# EAGLE library part SAMD20JXXA (library ihpcb-sam)
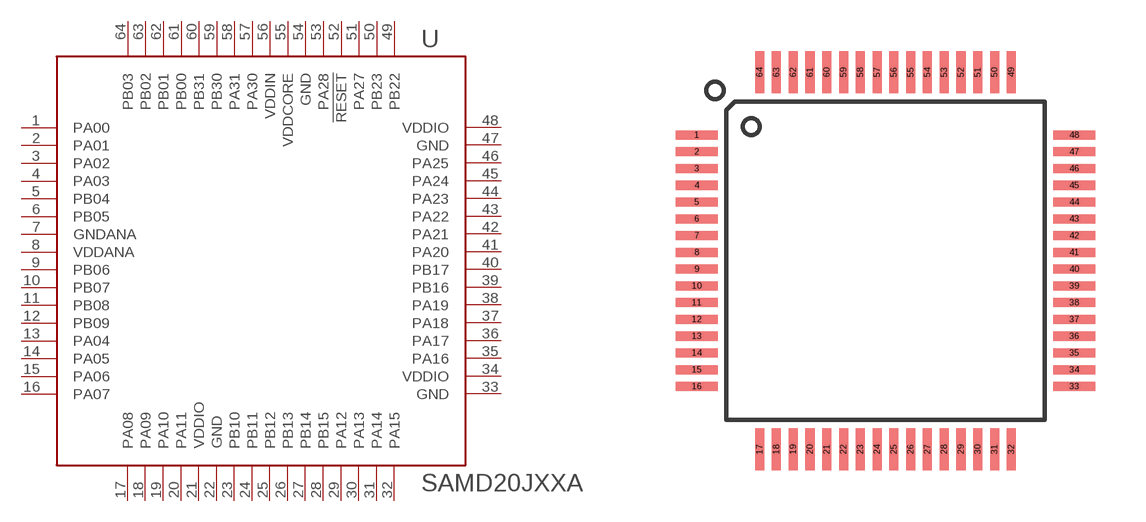
[diagram p0: symbol with the pads of TQFP64; footprint TQFP64]

Designator prefix U

## SAMD20JXXA-AU(T)  [TQFP64]
1  PA00
2  PA01
3  PA02
4  PA03
5  PB04
6  PB05
7  GNDANA
8  VDDANA
9  PB06
10  PB07
11  PB08
12  PB09
13  PA04
14  PA05
15  PA06
16  PA07
17  PA08
18  PA09
19  PA10
20  PA11
21  VDDIO
22  GND
23  PB10
24  PB11
25  PB12
26  PB13
27  PB14
28  PB15
29  PA12
30  PA13
31  PA14
32  PA15
33  GND
34  VDDIO
35  PA16
36  PA17
37  PA18
38  PA19
39  PB16
40  PB17
41  PA20
42  PA21
43  PA22
44  PA23
45  PA24
46  PA25
47  GND
48  VDDIO
49  PB22
50  PB23
51  PA27
52  !RESET
53  PA28
54  GND
55  VDDCORE
56  VDDIN
57  PA30
58  PA31
59  PB30
60  PB31
61  PB00
62  PB01
63  PB02
64  PB03

## Footprint TQFP64 (pad centres in mm)
smd 1.25 x 0.27: 1 -5.625,3.75; 2 -5.625,3.25; 3 -5.625,2.75; 4 -5.625,2.25; 5 -5.625,1.75; 6 -5.625,1.25; 7 -5.625,0.75; 8 -5.625,0.25; 9 -5.625,-0.25; 10 -5.625,-0.75; 11 -5.625,-1.25; 12 -5.625,-1.75; 13 -5.625,-2.25; 14 -5.625,-2.75; 15 -5.625,-3.25; 16 -5.625,-3.75; 33 5.625,-3.75; 34 5.625,-3.25; 35 5.625,-2.75; 36 5.625,-2.25; 37 5.625,-1.75; 38 5.625,-1.25; 39 5.625,-0.75; 40 5.625,-0.25; 41 5.625,0.25; 42 5.625,0.75; 43 5.625,1.25; 44 5.625,1.75; 45 5.625,2.25; 46 5.625,2.75; 47 5.625,3.25; 48 5.625,3.75
smd 0.27 x 1.25: 17 -3.75,-5.625; 18 -3.25,-5.625; 19 -2.75,-5.625; 20 -2.25,-5.625; 21 -1.75,-5.625; 22 -1.25,-5.625; 23 -0.75,-5.625; 24 -0.25,-5.625; 25 0.25,-5.625; 26 0.75,-5.625; 27 1.25,-5.625; 28 1.75,-5.625; 29 2.25,-5.625; 30 2.75,-5.625; 31 3.25,-5.625; 32 3.75,-5.625; 49 3.75,5.625; 50 3.25,5.625; 51 2.75,5.625; 52 2.25,5.625; 53 1.75,5.625; 54 1.25,5.625; 55 0.75,5.625; 56 0.25,5.625; 57 -0.25,5.625; 58 -0.75,5.625; 59 -1.25,5.625; 60 -1.75,5.625; 61 -2.25,5.625; 62 -2.75,5.625; 63 -3.25,5.625; 64 -3.75,5.625